# Altium footprint library ENGG4000-SysMoDEL-BMS.PcbLib: 82 footprints (part 6 of 6)
Each footprint in its own frame and in the unit in brackets; x right, y up, seen from the top. Pads: shape width x height; smd on the part's side, far side on the other; paste and mask are expansions set on the pad; w line width, h text height; cw(c..) or ccw(c..) is an arc to the next point about the centre after c.
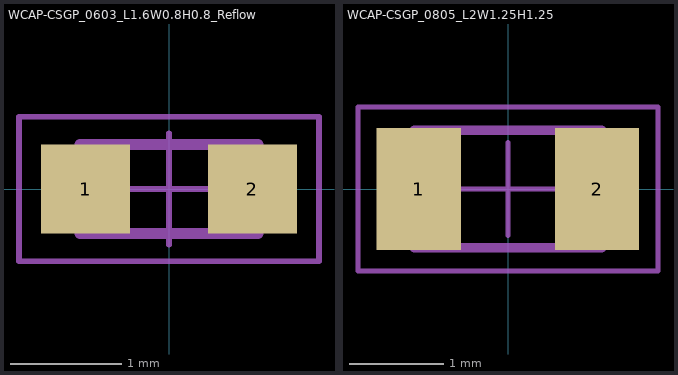
[diagram p5: the footprints below, top view; thin cyan lines are the x and y axes]

## WCAP-CSGP_0603_L1.6W0.8H0.8_Reflow [mm] "Ceramic Capacitors, body 1.6x0.8mm"
height 0.8
pads (2):
  rect 0.8x0.8 smd: 1(-0.75,0) 2(0.75,0)
Top Designator:
  text ".Designator" at -2.499,-0.167 h0.5
Top Component Outline:
  lines w0.1: -0.8,-0.4 -0.8,0.4 0.8,0.4 0.8,-0.4 -0.8,-0.4
Top 3D Body:
  lines w0.1: -0.8,-0.4 0.8,-0.4 0.8,0.4 -0.8,0.4 -0.8,-0.4
Top Courtyard:
  lines w0.05: -0.5,0 0.5,0 ; 0,-0.5 0,0.5 ; -1.35,-0.65 -1.35,0.65 1.35,0.65 1.35,-0.65 -1.35,-0.65
3D body "CAPC1608X08N.step": height 0.8, standoff 0, extent -0.8,-0.4 0.8,0.4

## WCAP-CSGP_0805_L2W1.25H1.25 [mm] "Ceramic Capacitors, body 2x1.25mm"
height 1.35
pads (2):
  rect 0.9x1.3 smd: 1(-0.95,0) 2(0.95,0)
Top Designator:
  text ".Designator" at -3.499,-0.233 h0.7
Top Component Outline:
  lines w0.1: -1,-0.625 -1,0.625 1,0.625 1,-0.625 -1,-0.625
Top 3D Body:
  lines w0.1: -1,-0.625 1,-0.625 1,0.625 -1,0.625 -1,-0.625
Top Courtyard:
  lines w0.05: -0.5,0 0.5,0 ; 0,-0.5 0,0.5 ; -1.6,-0.875 1.6,-0.875 1.6,0.875 -1.6,0.875 -1.6,-0.875
3D body "CAPC2012X12N.step": height 1.25, standoff 0, extent -1,-0.625 1,0.625